# Altium integrated library CLRC663.IntLib: 1 symbol
Pins are listed as number, name and electrical type; pins without a type are passive.

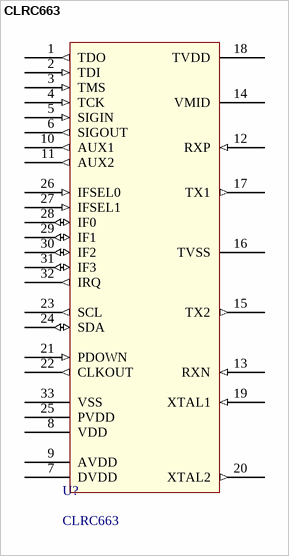
[diagram p0: symbol CLRC663]

## CLRC663
designator U?
footprint QFN50P500X500X100_HS-33N (QFN, 32-Leads, Body 5.00x5.00mm, Pitch 0.50mm, Thermal Pad 3.10x3.10mm, IPC Medium Density)
pins: 1 TDO (out) "test data output for boundary scan interface", 2 TDI (in) "test data input boundary scan interface", 3 TMS (in) "test mode select boundary scan interface", 4 TCK (in) "test clock boundary scan interface", 5 SIGIN (in) "Contactless communication interface output.", 6 SIGOUT (out) "Contactless communication interface input.", 7 DVDD (power) "digital power supply buffer [1]", 8 VDD (power) "power supply", 9 AVDD (power) "analog power supply buffer [1]", 10 AUX1 (out) "auxiliary outputs: Pin is used for analog test signal", 11 AUX2 (out) "auxiliary outputs: Pin is used for analog test signal", 12 RXP (in) "receiver input pin for the received RF signal.", 13 RXN (in) "receiver input pin for the received RF signal.", 14 VMID (power) "internal receiver reference voltage [1]", 15 TX2 (out) "transmitter 2: delivers the modulated 13.56 MHz carrier", 16 TVSS (power) "transmitter ground, supplies the output stage of TX1, TX2", 17 TX1 (out) "transmitter 1: delivers the modulated 13.56 MHz carrier", 18 TVDD (power) "transmitter voltage supply", 19 XTAL1 (in) "crystal oscillator input: Input to the inverting amplifier of the oscillator. This is pin is also the input for an externally generated clock (fosc = 27,12 MHz)", 20 XTAL2 (out) "crystal oscillator output: output of the inverting amplifier of the oscillator", 21 PDOWN (in) "Power Down", 22 CLKOUT (out) "clock output", 23 SCL (out) "Serial Clock line", 24 SDA (io) "Serial Data Line", 25 PVDD (power) ""pad power supply", 26 IFSEL0 (in) ""pad power supply", 27 IFSEL1 (in) ""pad power supply", 28 IF0 (io) ""pad power supply", 29 IF1 (io) ""pad power supply", 30 IF2 (io) ""pad power supply", 31 IF3 (io) ""pad power supply", 32 IRQ (out) "interrupt request: output to signal an interrupt event", 33 VSS (power) "ground and heatsink connection"